# Altium schematic symbol library MCP659-EML.SchLib: 1 symbol
Pins are listed as number, name and electrical type; pins without a type are passive.

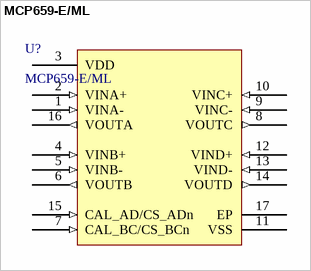
[diagram p0: symbol MCP659-E/ML]

## MCP659-E/ML
designator U?
Rail-to-rail op amp 150mA max; Manufacturer: Microchip; Slew Rate: 30V/µs; Common Mode Rejection Ratio: 65dB; Number of Channels: 4; Output Current: 95mA; Nominal Supply Current: 6mA; Min Supply Voltage: 2.5V; Max Supply Voltage: 5.5V; Voltage Gain: 123dB; Bandwidth: 50MHz; Input Bias Current: 6pA; Input Offset Voltage (Vos): 200uV; Power Supply Rejection Ratio (PSRR): 61dB; Supplier 1: Mouser; Manufacturer Part Number: MCP659-E/ML; Stock 1: 79; Pricing 1: 1=3.37, 10=3.32, 25=2.81, 50=2.81, 100=2.55, 1000=2.55, 10000=2.15 (USD); Mount: Surface Mount; Case/Package: QFN; Number of Pins: 16; Min Operating Temperature: -40°C; Max Operating Temperature: 125°C; Packaging: Rail/Tube; Unity Gain Bandwidth Product: 50MHz; Package Quantity: 91; Number of Circuits: 4; Gain Bandwidth Product: 50MHz; Operating Supply Current: 6mA; Output Current per Channel: 150mA; Number of Amplifiers: 4; Number of Elements: 4; Length: 4mm; Height: 0.95mm; Width: 4mm; Radiation Hardening: No; REACH SVHC: No SVHC; Lead Free: Lead Free; ComponentLink1URL: http://www.microchip.com/mymicrochip/filehandler.aspx?ddocname=en540974&src-supplier=Digi-Key; ComponentLink1Description: http://www.microchip.com/mymicrochip/filehandler.aspx?ddocname=en540974&src-supplier=Digi-Key; ComponentLink2URL: http://ww1.microchip.com/downloads/en/DeviceDoc/22146b.pdf?src-supplier=Mouser; ComponentLink2Description: http://ww1.microchip.com/downloads/en/DeviceDoc/22146b.pdf?src-supplier=Mouser; ComponentLink3URL: http://ww1.microchip.com/downloads/en/DeviceDoc/22146C.pdf?src-supplier=Avnet; ComponentLink3Description: http://ww1.microchip.com/downloads/en/DeviceDoc/22146C.pdf?src-supplier=Avnet; ComponentLink4URL: http://uk.rs-online.com/webdocs/1169/0900766b811692ff.pdf?src-supplier=RSComponents; ComponentLink4Description: http://uk.rs-online.com/webdocs/1169/0900766b811692ff.pdf?src-supplier=RSComponents; ComponentLink5URL: https://www.alliedelec.com/m/d/2690c55cfdb31f35f6f92fa7a80fddcc.pdf?src-supplier=Allied+Electronics; ComponentLink5Description: https://www.alliedelec.com/m/d/2690c55cfdb31f35f6f92fa7a80fddcc.pdf?src-supplier=Allied+Electronics; ComponentLink6URL: http://www.farnell.com/datasheets/1464515.pdf?src-supplier=Element14; ComponentLink6Description: http://www.farnell.com/datasheets/1464515.pdf?src-supplier=Element14; Supplier 2: Digi-Key; Supplier Part Number 1: 579-MCP659-E/ML; Supplier Part Number 2: MCP659-E/ML-ND
footprint QFN65P400X400X100-17N (Quad rail-to-rail op amp)
pins: 1 VINA- (in), 2 VINA+ (in), 3 VDD (power), 4 VINB+ (in), 5 VINB- (in), 6 VOUTB (out), 7 CAL_BC/CS_BCn (in), 8 VOUTC (out), 9 VINC- (in), 10 VINC+ (in), 11 VSS (power), 12 VIND+ (in), 13 VIND- (in), 14 VOUTD (out), 15 CAL_AD/CS_ADn (in), 16 VOUTA (out), 17 EP